# EAGLE library part RASPBERRYPI_SHEILD (library FaBo-Boards)
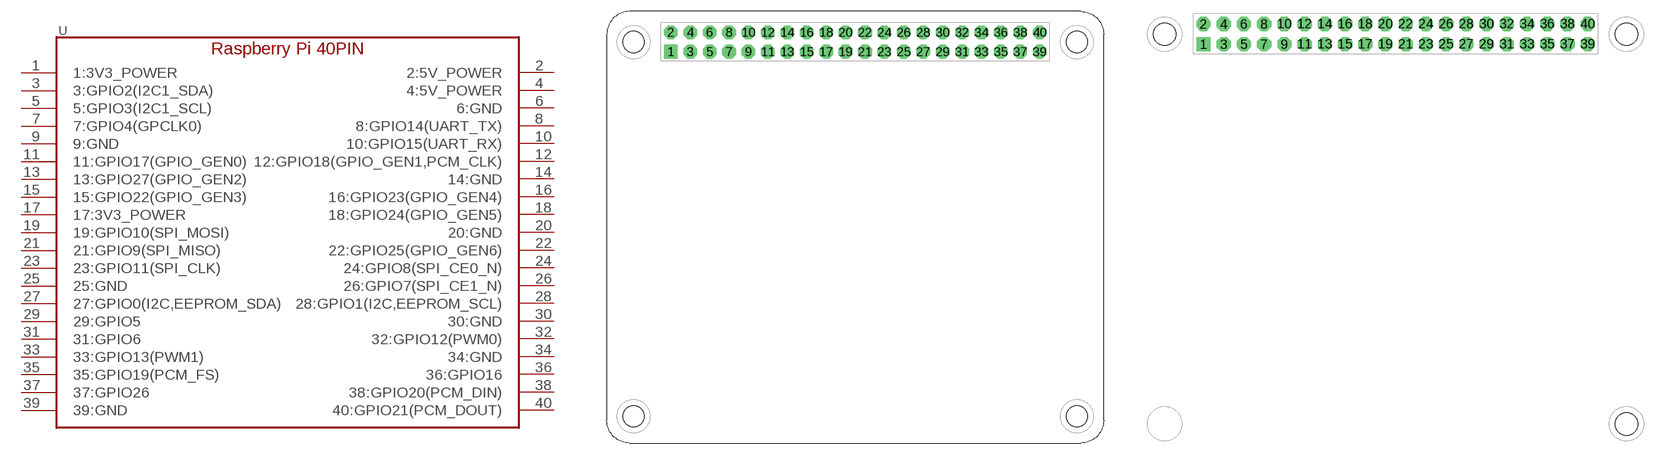
[diagram p21: symbol with the pads of RASPBERRY_PI_SHILED; footprints RASPBERRY_PI_SHILED, RASPBERRY_PI_SHILED_NONDEMETION]

Designator prefix -

## RASPBERRYPI_SHEILD  [RASPBERRY_PI_SHILED]
1  1:3V3_POWER  pwr
2  2:5V_POWER  pwr
3  3:GPIO2(I2C1_SDA)
4  4:5V_POWER  pwr
5  5:GPIO3(I2C1_SCL)
6  6:GND  pwr
7  7:GPIO4(GPCLK0)
8  8:GPIO14(UART_TX)
9  9:GND  pwr
10  10:GPIO15(UART_RX)
11  11:GPIO17(GPIO_GEN0)
12  12:GPIO18(GPIO_GEN1,PCM_CLK)
13  13:GPIO27(GPIO_GEN2)
14  14:GND  pwr
15  15:GPIO22(GPIO_GEN3)
16  16:GPIO23(GPIO_GEN4)
17  17:3V3_POWER  pwr
18  18:GPIO24(GPIO_GEN5)
19  19:GPIO10(SPI_MOSI)
20  20:GND  pwr
21  21:GPIO9(SPI_MISO)
22  22:GPIO25(GPIO_GEN6)
23  23:GPIO11(SPI_CLK)
24  24:GPIO8(SPI_CE0_N)
25  25:GND  pwr
26  26:GPIO7(SPI_CE1_N)
27  27:GPIO0(I2C,EEPROM_SDA)
28  28:GPIO1(I2C,EEPROM_SCL)
29  29:GPIO5
30  30:GND  pwr
31  31:GPIO6
32  32:GPIO12(PWM0)
33  33:GPIO13(PWM1)
34  34:GND  pwr
35  35:GPIO19(PCM_FS)
36  36:GPIO16
37  37:GPIO26
38  38:GPIO20(PCM_DIN)
39  39:GND  pwr
40  40:GPIO21(PCM_DOUT)

## RASPBERRYPI_SHEILDUPPERBOARD  [RASPBERRY_PI_SHILED_NONDEMETION]
Pads as for RASPBERRY_PI_SHILED

## Footprint RASPBERRY_PI_SHILED (pad centres in mm)
drill 1 pad 1.778 square: 1 -24.13,-1.27
drill 1 pad 1.778 octagon: 2 -24.13,1.27; 3 -21.59,-1.27; 4 -21.59,1.27; 5 -19.05,-1.27; 6 -19.05,1.27; 7 -16.51,-1.27; 8 -16.51,1.27; 9 -13.97,-1.27; 10 -13.97,1.27; 11 -11.43,-1.27; 12 -11.43,1.27; 13 -8.89,-1.27; 14 -8.89,1.27; 15 -6.35,-1.27; 16 -6.35,1.27; 17 -3.81,-1.27; 18 -3.81,1.27; 19 -1.27,-1.27; 20 -1.27,1.27; 21 1.27,-1.27; 22 1.27,1.27; 23 3.81,-1.27; 24 3.81,1.27; 25 6.35,-1.27; 26 6.35,1.27; 27 8.89,-1.27; 28 8.89,1.27; 29 11.43,-1.27; 30 11.43,1.27; 31 13.97,-1.27; 32 13.97,1.27; 33 16.51,-1.27; 34 16.51,1.27; 35 19.05,-1.27; 36 19.05,1.27; 37 21.59,-1.27; 38 21.59,1.27; 39 24.13,-1.27; 40 24.13,1.27

## Footprint RASPBERRY_PI_SHILED_NONDEMETION (pad centres in mm)
drill 1 pad 1.778 square: 1 -24.13,-1.27
drill 1 pad 1.778 octagon: 2 -24.13,1.27; 3 -21.59,-1.27; 4 -21.59,1.27; 5 -19.05,-1.27; 6 -19.05,1.27; 7 -16.51,-1.27; 8 -16.51,1.27; 9 -13.97,-1.27; 10 -13.97,1.27; 11 -11.43,-1.27; 12 -11.43,1.27; 13 -8.89,-1.27; 14 -8.89,1.27; 15 -6.35,-1.27; 16 -6.35,1.27; 17 -3.81,-1.27; 18 -3.81,1.27; 19 -1.27,-1.27; 20 -1.27,1.27; 21 1.27,-1.27; 22 1.27,1.27; 23 3.81,-1.27; 24 3.81,1.27; 25 6.35,-1.27; 26 6.35,1.27; 27 8.89,-1.27; 28 8.89,1.27; 29 11.43,-1.27; 30 11.43,1.27; 31 13.97,-1.27; 32 13.97,1.27; 33 16.51,-1.27; 34 16.51,1.27; 35 19.05,-1.27; 36 19.05,1.27; 37 21.59,-1.27; 38 21.59,1.27; 39 24.13,-1.27; 40 24.13,1.27